# Altium footprint library ICs.PcbLib: 9 footprints
Each footprint in its own frame and in the unit in brackets; x right, y up, seen from the top. Pads: shape width x height; smd on the part's side, far side on the other; paste and mask are expansions set on the pad; w line width, h text height; cw(c..) or ccw(c..) is an arc to the next point about the centre after c.
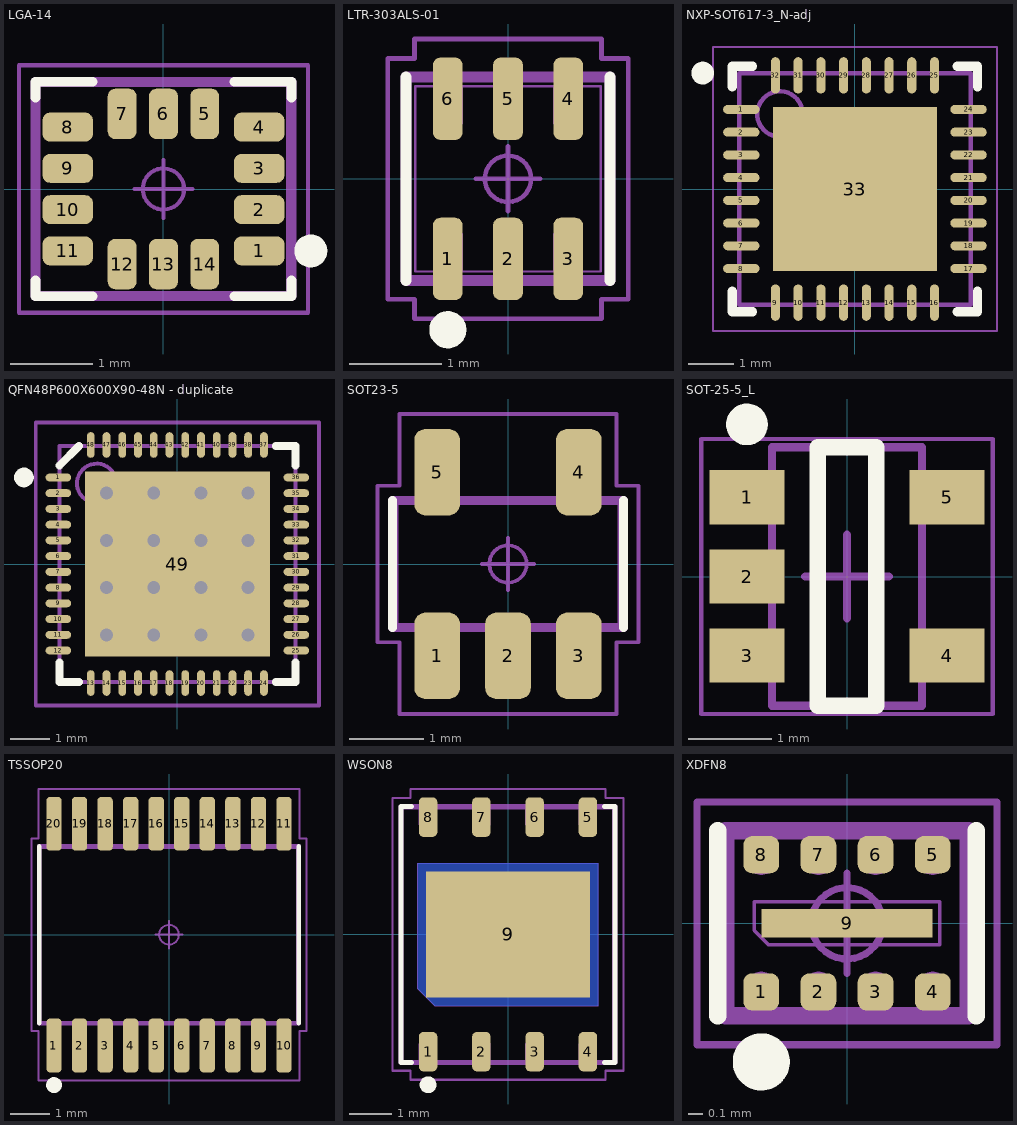
[diagram p0: the footprints below, top view; thin cyan lines are the x and y axes]

## LGA-14 [mm]
height 0.86
pads (14):
  rrect51% 0.61x0.35 smd: 1(1.16,-0.75) 2(1.16,-0.25) 3(1.16,0.25) 4(1.16,0.75) 8(-1.16,0.75) 9(-1.16,0.25) 10(-1.16,-0.25) 11(-1.16,-0.75)
  rrect51% 0.35x0.61 smd: 5(0.5,0.91) 6(0,0.91) 7(-0.5,0.91) 12(-0.5,-0.91) 13(0,-0.91) 14(0.5,-0.91)
Top Overlay:
  circle w0.2: c1.785,-0.75 r0.1
  lines w0.12: -1.55,-1.11 -1.55,-1.3 -0.86,-1.3 ; -1.55,1.11 -1.55,1.3 -0.86,1.3 ; 0.86,-1.3 1.55,-1.3 1.55,-1.11 ; 0.86,1.3 1.55,1.3 1.55,1.11
Assembly Top:
  lines w0.12: -1.55,-1.3 -1.55,1.3 1.55,1.3 1.55,-1.3 -1.55,-1.3
3D Top:
  lines w0.025: -1.5,-1.25 -1.5,1.25 1.5,1.25 1.5,-1.25 -1.5,-1.25 ; -1.4,-0.875 -0.95,-0.875 -0.95,-0.625 -1.4,-0.625 -1.4,-0.875 ; -1.4,-0.375 -0.95,-0.375 -0.95,-0.125 -1.4,-0.125 -1.4,-0.375 ; -1.4,0.125 -0.95,0.125 -0.95,0.375 -1.4,0.375 -1.4,0.125 ; -1.4,0.625 -0.95,0.625 -0.95,0.875 -1.4,0.875 -1.4,0.625 ; -0.625,-1.15 -0.375,-1.15 -0.375,-0.7 -0.625,-0.7 -0.625,-1.15 ; -0.625,0.7 -0.375,0.7 -0.375,1.15 -0.625,1.15 -0.625,0.7 ; -0.125,-1.15 0.125,-1.15 0.125,-0.7 -0.125,-0.7 -0.125,-1.15 ; -0.125,0.7 0.125,0.7 0.125,1.15 -0.125,1.15 -0.125,0.7 ; 0.375,-1.15 0.625,-1.15 0.625,-0.7 0.375,-0.7 0.375,-1.15 ; 0.375,0.7 0.625,0.7 0.625,1.15 0.375,1.15 0.375,0.7 ; 0.95,-0.875 0.95,-0.625 1.4,-0.625 1.4,-0.875 0.95,-0.875 ; 0.95,-0.375 0.95,-0.125 1.4,-0.125 1.4,-0.375 0.95,-0.375 ; 0.95,0.125 0.95,0.375 1.4,0.375 1.4,0.125 0.95,0.125 ; 0.95,0.625 0.95,0.875 1.4,0.875 1.4,0.625 0.95,0.625
Courtyard Top:
  circle w0.05: c0,0 r0.25
  lines w0.05: -0.35,0 0.35,0 ; 0,-0.35 0,0.35 ; -1.75,-1.5 -1.75,1.5 1.75,1.5 1.75,-1.5 -1.75,-1.5
3D body: height 0.86, standoff 0, extent -1.5,-1.25 1.5,1.25

## LTR-303ALS-01 [mm]
height 0.9
pads (6):
  rrect50% 0.32x0.89 smd: 1(-0.65,-0.865) 2(0,-0.865) 3(0.65,-0.865) 4(0.65,0.865) 5(0,0.865) 6(-0.65,0.865)
Top Overlay:
  circle w0.2: c-0.65,-1.63 r0.1
  lines w0.12: -1.1,-1.1 -1.1,1.1 ; 1.1,-1.1 1.1,1.1
Assembly Top:
  lines w0.12: -1.1,-1.1 -1.1,1.1 1.1,1.1 1.1,-1.1 -1.1,-1.1
3D Top:
  lines w0.025: -1,-1 -1,1 1,1 1,-1 -1,-1 ; -0.8,-1 -0.5,-1 -0.5,-0.6 -0.8,-0.6 -0.8,-1 ; -0.8,0.6 -0.5,0.6 -0.5,1 -0.8,1 -0.8,0.6 ; -0.15,-1 0.15,-1 0.15,-0.6 -0.15,-0.6 -0.15,-1 ; -0.15,0.6 0.15,0.6 0.15,1 -0.15,1 -0.15,0.6 ; 0.5,-1 0.8,-1 0.8,-0.6 0.5,-0.6 0.5,-1 ; 0.5,0.6 0.8,0.6 0.8,1 0.5,1 0.5,0.6
Courtyard Top:
  circle w0.05: c0,0 r0.25
  lines w0.05: -0.35,0 0.35,0 ; 0,-0.35 0,0.35 ; -1.3,-1.3 -1.3,1.3 -1.01,1.3 -1.01,1.51 1.01,1.51 1.01,1.3 1.3,1.3 1.3,-1.3 1.01,-1.3 1.01,-1.51 -1.01,-1.51 -1.01,-1.3 -1.3,-1.3
3D body: height 0.9, standoff 0, extent -1,-1.05 1,1.05

## NXP-SOT617-3_N-adj [mm] "QFN, 32-Leads, Body 5x5mm, Pitch 0.5mm, Thermal Pad 3.6x3.6mm, IPC Medium Density"
height 0.85
pads (33):
  oval 0.8x0.2 smd: 1(-2.5,1.75) 2(-2.5,1.25) 3(-2.5,0.75) 4(-2.5,0.25) 5(-2.5,-0.25) 6(-2.5,-0.75) 7(-2.5,-1.25) 8(-2.5,-1.75) 17(2.5,-1.75) 18(2.5,-1.25) 19(2.5,-0.75) 20(2.5,-0.25) 21(2.5,0.25) 22(2.5,0.75) 23(2.5,1.25) 24(2.5,1.75)
  oval 0.2x0.8 smd: 9(-1.75,-2.5) 10(-1.25,-2.5) 11(-0.75,-2.5) 12(-0.25,-2.5) 13(0.25,-2.5) 14(0.75,-2.5) 15(1.25,-2.5) 16(1.75,-2.5) 25(1.75,2.5) 26(1.25,2.5) 27(0.75,2.5) 28(0.25,2.5) 29(-0.25,2.5) 30(-0.75,2.5) 31(-1.25,2.5) 32(-1.75,2.5)
  rect 3.6x3.6 smd: 33(0,0)
Top Overlay:
  circle w0.25: c-3.35,2.55 r0.125
  lines w0.2: -2.7,-2.25 -2.7,-2.7 -2.25,-2.7 ; -2.7,2.25 -2.7,2.7 -2.25,2.7 ; 2.25,-2.7 2.7,-2.7 2.7,-2.25 ; 2.25,2.7 2.7,2.7 2.7,2.25
3D Top:
  circle w0.1: c-1.65,1.65 r0.5
  lines w0.1: -2.55,-2.55 -2.55,2.55 2.55,2.55 2.55,-2.55 -2.55,-2.55
Courtyard Top:
  lines w0.05: -3.125,-3.125 -3.125,3.125 3.125,3.125 3.125,-3.125 -3.125,-3.125
  lines w0.1: -0.5,0 0.5,0 ; 0,-0.5 0,0.5
3D body: height 0.85, standoff 0, extent -2.55,-2.55 2.55,2.55

## QFN48P600X600X90-48N - duplicate [mm] "QFN, 48-Leads, Body 6,0x6,0mm (max), Pitch 0,40mm, IPC Medium Density"
height 0.9
pads (49):
  oval 0.65x0.2 smd: 1(-3.025,2.2) 2(-3.025,1.8) 3(-3.025,1.4) 4(-3.025,1) 5(-3.025,0.6) 6(-3.025,0.2) 7(-3.025,-0.2) 8(-3.025,-0.6) 9(-3.025,-1) 10(-3.025,-1.4) 11(-3.025,-1.8) 12(-3.025,-2.2) 25(3.025,-2.2) 26(3.025,-1.8) 27(3.025,-1.4) 28(3.025,-1) 29(3.025,-0.6) 30(3.025,-0.2) 31(3.025,0.2) 32(3.025,0.6) 33(3.025,1) 34(3.025,1.4) 35(3.025,1.8) 36(3.025,2.2)
  oval 0.2x0.65 smd: 13(-2.2,-3.025) 14(-1.8,-3.025) 15(-1.4,-3.025) 16(-1,-3.025) 17(-0.6,-3.025) 18(-0.2,-3.025) 19(0.2,-3.025) 20(0.6,-3.025) 21(1,-3.025) 22(1.4,-3.025) 23(1.8,-3.025) 24(2.2,-3.025) 37(2.2,3.025) 38(1.8,3.025) 39(1.4,3.025) 40(1,3.025) 41(0.6,3.025) 42(0.2,3.025) 43(-0.2,3.025) 44(-0.6,3.025) 45(-1,3.025) 46(-1.4,3.025) 47(-1.8,3.025) 48(-2.2,3.025)
  rect 4.7x4.7 smd: 49(0,0)
via 1.8,-1.8 diameter 0.66 hole 0.33
via 0.6,-1.8 diameter 0.66 hole 0.33
via -0.6,-1.8 diameter 0.66 hole 0.33
via -1.8,-1.8 diameter 0.66 hole 0.33
via 1.8,-0.6 diameter 0.66 hole 0.33
via 0.6,-0.6 diameter 0.66 hole 0.33
via -0.6,-0.6 diameter 0.66 hole 0.33
via -1.8,-0.6 diameter 0.66 hole 0.33
via 1.8,0.6 diameter 0.66 hole 0.33
via 0.6,0.6 diameter 0.66 hole 0.33
via -0.6,0.6 diameter 0.66 hole 0.33
via -1.8,0.6 diameter 0.66 hole 0.33
via 1.8,1.8 diameter 0.66 hole 0.33
via 0.6,1.8 diameter 0.66 hole 0.33
via -0.6,1.8 diameter 0.66 hole 0.33
via -1.8,1.8 diameter 0.66 hole 0.33
Top Overlay:
  circle w0.25: c-3.9,2.2 r0.125
  lines w0.2: -3,-2.5 -3,-3 -2.5,-3 ; -3,2.5 -2.5,3 ; 2.5,-3 3,-3 3,-2.5 ; 2.5,3 3,3 3,2.5
3D Top:
  circle w0.1: c-2.05,2.05 r0.5
  lines w0.1: -3,-3 3,-3 3,3 -3,3 -3,-3
Courtyard Top:
  lines w0.1: -0.5,0 0.5,0 ; 0,-0.5 0,0.5 ; -3.6,-3.6 3.6,-3.6 3.6,3.6 -3.6,3.6 -3.6,-3.6
3D body: height 0.86, standoff -0.01, extent -3.02,-3.02 3.02,3.02

## SOT23-5 [mm]
height 1.4
pads (5):
  rrect49% 0.61x1.16 smd: 1(-0.95,-1.23) 2(0,-1.23) 3(0.95,-1.23) 4(0.95,1.23) 5(-0.95,1.23)
Top Overlay:
  lines w0.12: -1.55,-0.85 -1.55,0.85 ; 1.55,-0.85 1.55,0.85
Assembly Top:
  lines w0.12: -1.55,-0.85 1.55,-0.85 1.55,0.85 -1.55,0.85 -1.55,-0.85
3D Top:
  lines w0.025: -1.48,-0.8 1.48,-0.8 1.48,0.8 -1.48,0.8 -1.48,-0.8 ; -1.15,-1.4 -1.15,-0.95 -0.75,-0.95 -0.75,-1.4 -1.15,-1.4 ; -1.15,0.95 -1.15,1.4 -0.75,1.4 -0.75,0.95 -1.15,0.95 ; -0.2,-1.4 -0.2,-0.95 0.2,-0.95 0.2,-1.4 -0.2,-1.4 ; 0.75,-1.4 0.75,-0.95 1.15,-0.95 1.15,-1.4 0.75,-1.4 ; 0.75,0.95 0.75,1.4 1.15,1.4 1.15,0.95 0.75,0.95
Courtyard Top:
  circle w0.05: c0,0 r0.25
  lines w0.05: -0.35,0 0.35,0 ; 0,-0.35 0,0.35 ; -1.75,-1.05 -1.455,-1.05 -1.455,-2.01 1.455,-2.01 1.455,-1.05 1.75,-1.05 1.75,1.05 1.455,1.05 1.455,2.01 -1.455,2.01 -1.455,1.05 -1.75,1.05 -1.75,-1.05
3D body: height 1.4, standoff 0, extent -1.48,-1.4 1.48,1.4

## SOT-25-5_L [mm] "SOT23, 5-Leads, Body 3.1x1.8mm, Pitch 0.95mm, IPC High Density"
height 1.3
pads (5):
  rect 0.9x0.65 smd: 1(-1.2,0.95) 2(-1.2,0) 3(-1.2,-0.95) 4(1.2,-0.95) 5(1.2,0.95)
Top Overlay:
  circle w0.25: c-1.2,1.825 r0.125
  lines w0.2: -0.35,-1.55 0.35,-1.55 0.35,1.55 -0.35,1.55 -0.35,-1.55
3D Top:
  lines w0.1: -0.9,-1.55 -0.9,1.55 0.9,1.55 0.9,-1.55 -0.9,-1.55
Courtyard Top:
  lines w0.05: -1.75,-1.65 -1.75,1.65 1.75,1.65 1.75,-1.65 -1.75,-1.65
  lines w0.1: -0.5,0 0.5,0 ; 0,-0.5 0,0.5
3D body: height 1.3, standoff 0, extent -0.9,-1.55 0.9,1.55

## TSSOP20 [mm]
height 1.1
pads (20):
  rrect51% 0.39x1.37 smd: 1(-2.925,-2.82) 2(-2.275,-2.82) 3(-1.625,-2.82) 4(-0.975,-2.82) 5(-0.325,-2.82) 6(0.325,-2.82) 7(0.975,-2.82) 8(1.625,-2.82) 9(2.275,-2.82) 10(2.925,-2.82) 11(2.925,2.82) 12(2.275,2.82) 13(1.625,2.82) 14(0.975,2.82) 15(0.325,2.82) 16(-0.325,2.82) 17(-0.975,2.82) 18(-1.625,2.82) 19(-2.275,2.82) 20(-2.925,2.82)
Top Overlay:
  circle w0.2: c-2.925,-3.825 r0.1
  lines w0.12: -3.3,-2.25 -3.3,2.25 ; 3.3,-2.25 3.3,2.25
Assembly Top:
  lines w0.12: -3.3,-2.25 3.3,-2.25 3.3,2.25 -3.3,2.25 -3.3,-2.25
3D Top:
  lines w0.025: -3.25,-2.2 3.25,-2.2 3.25,2.2 -3.25,2.2 -3.25,-2.2 ; -3.047,-3.2 -3.047,-2.575 -2.802,-2.575 -2.802,-3.2 -3.047,-3.2 ; -3.047,2.575 -3.047,3.2 -2.802,3.2 -2.802,2.575 -3.047,2.575 ; -2.398,-3.2 -2.398,-2.575 -2.153,-2.575 -2.153,-3.2 -2.398,-3.2 ; -2.398,2.575 -2.398,3.2 -2.153,3.2 -2.153,2.575 -2.398,2.575 ; -1.747,-3.2 -1.747,-2.575 -1.502,-2.575 -1.502,-3.2 -1.747,-3.2 ; -1.747,2.575 -1.747,3.2 -1.502,3.2 -1.502,2.575 -1.747,2.575 ; -1.098,-3.2 -1.098,-2.575 -0.853,-2.575 -0.853,-3.2 -1.098,-3.2 ; -1.098,2.575 -1.098,3.2 -0.853,3.2 -0.853,2.575 -1.098,2.575 ; -0.447,-3.2 -0.447,-2.575 -0.202,-2.575 -0.202,-3.2 -0.447,-3.2 ; -0.447,2.575 -0.447,3.2 -0.202,3.2 -0.202,2.575 -0.447,2.575 ; 0.202,-3.2 0.202,-2.575 0.447,-2.575 0.447,-3.2 0.202,-3.2 ; 0.202,2.575 0.202,3.2 0.447,3.2 0.447,2.575 0.202,2.575 ; 0.853,-3.2 0.853,-2.575 1.098,-2.575 1.098,-3.2 0.853,-3.2 ; 0.853,2.575 0.853,3.2 1.098,3.2 1.098,2.575 0.853,2.575 ; 1.502,-3.2 1.502,-2.575 1.747,-2.575 1.747,-3.2 1.502,-3.2 ; 1.502,2.575 1.502,3.2 1.747,3.2 1.747,2.575 1.502,2.575 ; 2.153,-3.2 2.153,-2.575 2.398,-2.575 2.398,-3.2 2.153,-3.2 ; 2.153,2.575 2.153,3.2 2.398,3.2 2.398,2.575 2.153,2.575 ; 2.802,-3.2 2.802,-2.575 3.047,-2.575 3.047,-3.2 2.802,-3.2 ; 2.802,2.575 2.802,3.2 3.047,3.2 3.047,2.575 2.802,2.575
Courtyard Top:
  circle w0.05: c0,0 r0.25
  lines w0.05: -0.35,0 0.35,0 ; 0,-0.35 0,0.35 ; -3.5,-2.45 -3.32,-2.45 -3.32,-3.705 3.32,-3.705 3.32,-2.45 3.5,-2.45 3.5,2.45 3.32,2.45 3.32,3.705 -3.32,3.705 -3.32,2.45 -3.5,2.45 -3.5,-2.45
3D body: height 1.1, standoff 0, extent -3.25,-3.2 3.25,3.2

## WSON8 [mm]
height 0.8
pads (9):
  rrect50% 0.44x0.94 smd: 1(-1.905,-2.795) 2(-0.635,-2.795) 3(0.635,-2.795) 4(1.905,-2.795) 5(1.905,2.795) 6(0.635,2.795) 7(-0.635,2.795) 8(-1.905,2.795)
  rect 3.9x3 smd: 9(0,0)
Bottom Layer:
  region: 2.15,-1.7 -1.75,-1.7 -2.15,-1.3 -2.15,1.7 2.15,1.7
Top Overlay:
  circle w0.2: c-1.905,-3.585 r0.1
  lines w0.12: -2.305,-3.05 -2.55,-3.05 -2.55,3.05 -2.305,3.05 ; 2.305,-3.05 2.55,-3.05 2.55,3.05 2.305,3.05
Assembly Top:
  lines w0.12: -2.55,-3.05 2.55,-3.05 2.55,3.05 -2.55,3.05 -2.55,-3.05
3D Top:
  lines w0.025: -2.5,-3 2.5,-3 2.5,3 -2.5,3 -2.5,-3 ; -2.15,-1.3 -1.75,-1.7 2.15,-1.7 2.15,1.7 -2.15,1.7 -2.15,-1.3 ; -2.113,-3 -1.697,-3 -1.697,-2.608 ccw(c-1.905,-2.608) -2.113,-2.608 -2.113,-3 ; -2.113,2.608 ccw(c-1.905,2.608) -1.697,2.608 -1.697,3 -2.113,3 -2.113,2.608 ; -0.843,-3 -0.427,-3 -0.427,-2.608 ccw(c-0.635,-2.608) -0.843,-2.608 -0.843,-3 ; -0.843,2.608 ccw(c-0.635,2.608) -0.427,2.608 -0.427,3 -0.843,3 -0.843,2.608 ; 0.427,-3 0.843,-3 0.843,-2.608 ccw(c0.635,-2.608) 0.427,-2.608 0.427,-3 ; 0.427,2.608 ccw(c0.635,2.608) 0.843,2.608 0.843,3 0.427,3 0.427,2.608 ; 1.697,-3 2.113,-3 2.113,-2.608 ccw(c1.905,-2.608) 1.697,-2.608 1.697,-3 ; 1.697,2.608 ccw(c1.905,2.608) 2.113,2.608 2.113,3 1.697,3 1.697,2.608
Courtyard Top:
  circle w0.05: c0,0 r0.25
  lines w0.05: -0.35,0 0.35,0 ; 0,-0.35 0,0.35 ; -2.75,-3.25 -2.325,-3.25 -2.325,-3.465 2.325,-3.465 2.325,-3.25 2.75,-3.25 2.75,3.25 2.325,3.25 2.325,3.465 -2.325,3.465 -2.325,3.25 -2.75,3.25 -2.75,-3.25
3D body: height 0.8, standoff 0, extent -2.5,-3.05 2.5,3.05

## XDFN8 [mm]
height 0.45
pads (9):
  rrect48% 0.25x0.26 smd: 1(-0.6,-0.48) 2(-0.2,-0.48) 3(0.2,-0.48) 4(0.6,-0.48) 5(0.6,0.48) 6(0.2,0.48) 7(-0.2,0.48) 8(-0.6,0.48)
  rect 1.2x0.2 smd: 9(0,0)
Top Overlay:
  circle w0.2: c-0.6,-0.97 r0.1
  lines w0.12: -0.905,-0.65 -0.905,0.65 ; 0.905,-0.65 0.905,0.65
Assembly Top:
  lines w0.12: -0.85,-0.65 -0.85,0.65 0.85,0.65 0.85,-0.65 -0.85,-0.65
3D Top:
  lines w0.025: -0.8,-0.6 -0.8,0.6 0.8,0.6 0.8,-0.6 -0.8,-0.6 ; -0.69,-0.55 -0.69,-0.44 cw(c-0.6,-0.44) -0.51,-0.44 -0.51,-0.55 -0.69,-0.55 ; -0.69,0.44 ccw(c-0.6,0.44) -0.51,0.44 -0.51,0.55 -0.69,0.55 -0.69,0.44 ; -0.65,-0.05 -0.65,0.15 0.65,0.15 0.65,-0.15 -0.55,-0.15 -0.65,-0.05 ; -0.29,-0.55 -0.29,-0.44 cw(c-0.2,-0.44) -0.11,-0.44 -0.11,-0.55 -0.29,-0.55 ; -0.29,0.44 ccw(c-0.2,0.44) -0.11,0.44 -0.11,0.55 -0.29,0.55 -0.29,0.44 ; 0.11,-0.55 0.11,-0.44 cw(c0.2,-0.44) 0.29,-0.44 0.29,-0.55 0.11,-0.55 ; 0.11,0.44 ccw(c0.2,0.44) 0.29,0.44 0.29,0.55 0.11,0.55 0.11,0.44 ; 0.51,-0.55 0.51,-0.44 cw(c0.6,-0.44) 0.69,-0.44 0.69,-0.55 0.51,-0.55 ; 0.51,0.44 ccw(c0.6,0.44) 0.69,0.44 0.69,0.55 0.51,0.55 0.51,0.44
Courtyard Top:
  circle w0.05: c0,0 r0.25
  lines w0.05: -0.35,0 0.35,0 ; 0,-0.35 0,0.35 ; -1.05,-0.85 -1.05,0.85 1.05,0.85 1.05,-0.85 -1.05,-0.85
3D body: height 0.45, standoff 0, extent -0.8,-0.6 0.8,0.6